# Altium schematic symbol library PCB_Project.SCHLIB: 43 symbols
Pins are listed as number, name and electrical type; pins without a type are passive.

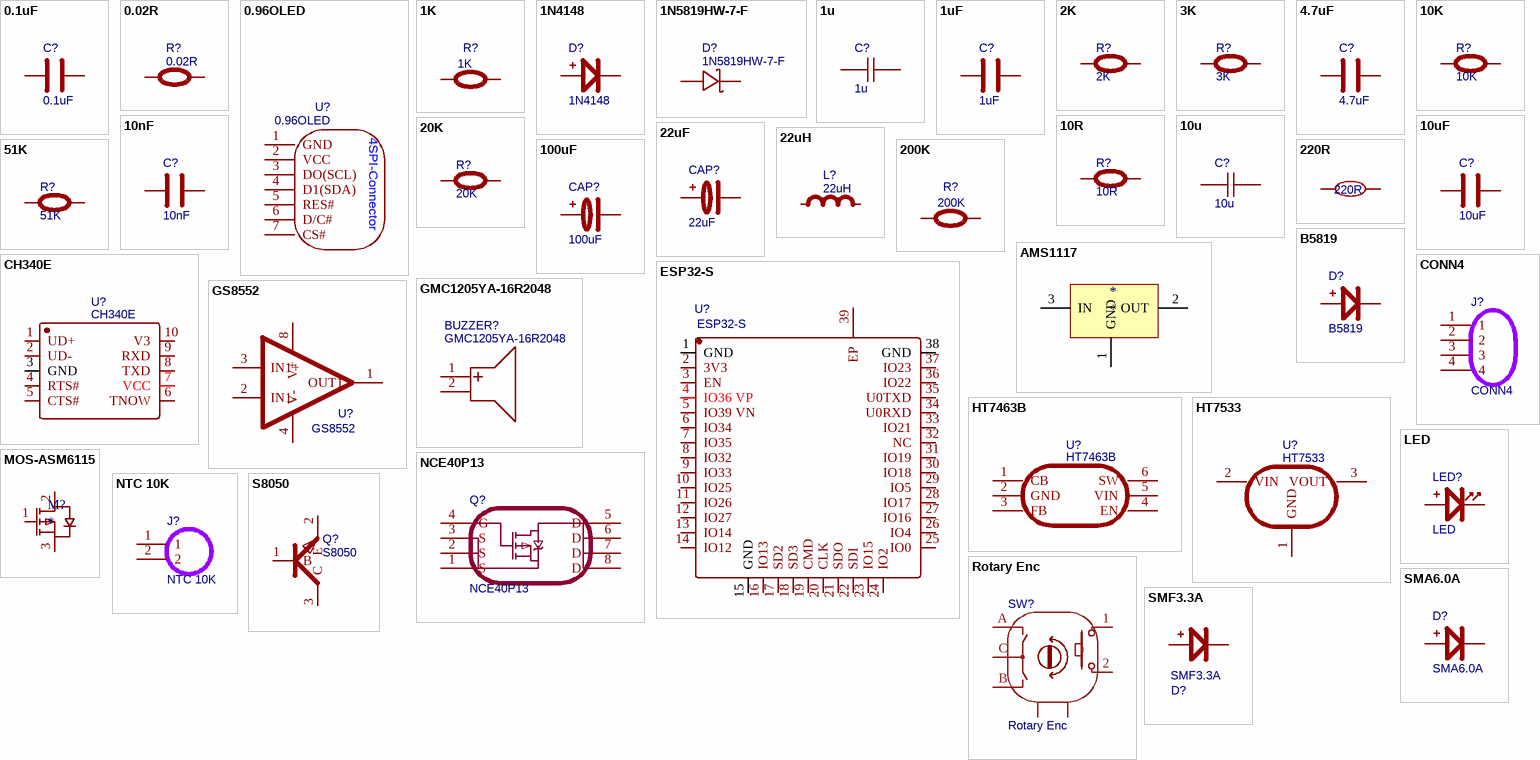
[diagram p0: symbols 0.1uF to SMF3.3A]

## 0.1uF
designator C?
Contributor: 47415Y; spicePre: C; spiceSymbolName: CAP
footprint LC-0603-C
pins: 1, 2

## 0.02R
designator R?
Contributor: 47415Y; spicePre: R; spiceSymbolName: RES
footprint LC-0603-R
pins: 1, 2

## 0.96OLED
designator U?
Contributor: jhsdhdhusdisd; spicePre: U; spiceSymbolName: 0.96OLED
footprint OLED 12864 SPI 7P
pins: 1 GND, 2 VCC, 3 DO(SCL), 4 D1(SDA), 5 RES#, 6 D/C#, 7 CS#
text: 4SPI-Connector

## 1K
designator R?
Contributor: 47415Y; spicePre: R; spiceSymbolName: RES
footprint LC-0603-R
pins: 1, 2

## 1N4148
designator D?
Contributor: 47415Y; spicePre: D; spiceSymbolName: DIO
footprint LC-SOD-123
pins: 1, 2

## 1N5819HW-7-F
designator D?
BOM_Manufacturer: DIODES; BOM_Paste Type: expand; BOM_Assembly Type: smtWeld; BOM_Supplier: LCSC; BOM_Manufacturer Part: 1N5819HW-7-F; image: //image.lceda.cn/szlcsc/C82544.jpg; BOM_Supplier Part: C82544; spicePre: D; spiceSymbolName: 1N5819HW-7-F; BOM_JLCPCB Part Class: Extended Part
footprint SOD-123_L2.8-W1.8-LS3.7-FD
pins: 1 A, 2 K

## 1u
designator C?
nameAlias: Value(F); Contributor: LCEDA_Lib; spicePre: C; spiceSymbolName: C_0603_US
footprint C0603
pins: 1, 2

## 1uF
designator C?
Contributor: 47415Y; spicePre: C; spiceSymbolName: CAP
footprint LC-0603-C
pins: 1, 2

## 2K
designator R?
Contributor: 47415Y; spicePre: R; spiceSymbolName: RES
footprint LC-0603-R
pins: 1, 2

## 3K
designator R?
Contributor: 47415Y; spicePre: R; spiceSymbolName: RES
footprint LC-0603-R
pins: 1, 2

## 4.7uF
designator C?
Contributor: 47415Y; spicePre: C; spiceSymbolName: CAP
footprint LC-0603-C
pins: 1, 2

## 10K
designator R?
Contributor: 47415Y; spicePre: R; spiceSymbolName: RES
footprint LC-0603-R
pins: 1, 2

## 10nF
designator C?
Contributor: 47415Y; spicePre: C; spiceSymbolName: CAP
footprint LC-0603-C
pins: 1, 2

## 10R
designator R?
Contributor: 47415Y; spicePre: R; spiceSymbolName: RES
footprint LC-0603-R
pins: 1, 2

## 10u
designator C?
nameAlias: Value(F); Contributor: LCEDA_Lib; spicePre: C; spiceSymbolName: C_0603_US
footprint C0603
pins: 1, 2

## 10uF
designator C?
Contributor: 47415Y; spicePre: C; spiceSymbolName: CAP
footprint LC-0603-C
pins: 1, 2

## 20K
designator R?
Contributor: 47415Y; spicePre: R; spiceSymbolName: RES
footprint LC-0603-R
pins: 1, 2

## 22uF
designator CAP?
Contributor: 47415Y; spicePre: C; spiceSymbolName: CAPX
footprint CAPX-5.0
pins: 1, 2

## 22uH
designator L?
Contributor: 47415Y; spicePre: L; spiceSymbolName: LIN
footprint LIN0520
pins: 1, 2

## 51K
designator R?
Contributor: 47415Y; spicePre: R; spiceSymbolName: RES
footprint LC-0603-R
pins: 1, 2

## 100uF
designator CAP?
Contributor: 47415Y; spicePre: C; spiceSymbolName: CAPX
footprint CAPX-5.0
pins: 1, 2

## 200K
designator R?
Contributor: 47415Y; spicePre: R; spiceSymbolName: RES
footprint LC-0603-R
pins: 1, 2

## 220R
designator R?
nameAlias: Value(Ω); Contributor: LCEDA_Lib; spicePre: R; spiceSymbolName: R_0603_EU
footprint R0603
pins: 1, 2

## AMS1117
designator *
pins: 1 GND, 2 OUT, 3 IN

## B5819
designator D?
Contributor: 47415Y; spicePre: D; spiceSymbolName: DIO
footprint LC-SOD-123
pins: 1, 2

## CH340E
designator U?
BOM_Manufacturer: WCH; BOM_Paste Type: recommend; BOM_Supplier: LCSC; BOM_Manufacturer Part: CH340E; BOM_Supplier Part: C99652; spicePre: U; spiceSymbolName: CH340E; BOM_JLCPCB Part Class: Extended Part
footprint MSOP-10_L3.0-W3.0-P0.50-LS5.0-BL
pins: 1 UD+, 2 UD-, 3 GND, 4 RTS#, 5 CTS#, 6 TNOW, 7 VCC, 8 TXD, 9 RXD, 10 V3

## CONN4
designator J?
Contributor: 47415Y; spicePre: J; spiceSymbolName: CONN4
footprint SIP-4
pins: 1, 2, 3, 4

## ESP32-S
designator U?
BOM_Manufacturer: Ai-Thinker; Contributor: LCSC; Package Display: No; BOM_Supplier: LCSC; BOM_Supplier Part: C277944; BOM_Manufacturer Part: ESP32-S; BOM_JLCPCB Part Class: Extended Part; spicePre: U; spiceSymbolName: ESP32-S
footprint WIRELM-SMD_ESP32-S
pins: 1 GND, 2 3V3, 3 EN, 4 IO36 VP, 5 IO39 VN, 6 IO34, 7 IO35, 8 IO32, 9 IO33, 10 IO25, 11 IO26, 12 IO27, 13 IO14, 14 IO12, 15 GND, 16 IO13, 17 SD2, 18 SD3, 19 CMD, 20 CLK, 21 SDO, 22 SDI, 23 IO15, 24 IO2, 25 IO0, 26 IO4, 27 IO16, 28 IO17, 29 IO5, 30 IO18, 31 IO19, 32 NC, 33 IO21, 34 U0RXD, 35 U0TXD, 36 IO22, 37 IO23, 38 GND, 39 EP

## GMC1205YA-16R2048
designator BUZZER?
BOM_Manufacturer: INGHAi; Contributor: LCSC; BOM_Supplier: LCSC; BOM_Supplier Part: C252915; BOM_Manufacturer Part: GMC1205YA-16R2048; BOM_JLCPCB Part Class: Extended Part; spicePre: B; spiceSymbolName: GMC1205YA-16R2048
footprint BUZ-TH_BD12.0-P6.50-D0.6-FD
pins: 1 +, 2 -

## GS8552
designator U?
subpart_no: 1; Contributor: 47415Y; spicePre: U; spiceSymbolName: LM358
footprint LC-SOP-8-150MIL
pins: 1 OUT1, 2 IN1-, 3 IN1+, 4 V-, 8 V+

## HT7463B
designator U?
Contributor: 47415Y; spicePre: U; spiceSymbolName: HT7463B
footprint LC-SOT-23-6
pins: 1 CB, 2 GND, 3 FB, 4 EN, 5 VIN, 6 SW

## HT7533
designator U?
Contributor: 47415Y; spicePre: U; spiceSymbolName: HT7533
footprint LC-SOT-89
pins: 1 GND, 2 VIN, 3 VOUT

## LED
designator LED?
Contributor: 47415Y; spicePre: L; spiceSymbolName: LED
footprint LC-0603-LED
pins: A, K

## MOS-ASM6115
designator M?
pins: 1 G, 2 D, 3 S

## NCE40P13
designator Q?
Contributor: 47415Y; spicePre: Q; spiceSymbolName: MOS-P-DFN
footprint DFN8-5*6
pins: 1 S, 2 S, 3 S, 4 G, 5 D, 6 D, 7 D, 8 D

## NTC 10K
designator J?
Contributor: 47415Y; spicePre: J; spiceSymbolName: CONN2
footprint SIP-2
pins: 1, 2

## Rotary Enc
designator SW?
BOM_Manufacturer: BOURNS; BOM_Manufacturer Part: PEC11R-4015F-S0024; Contributor: LCSC; BOM_Supplier: LCSC; BOM_Supplier Part: C143789; spicePre: S; BOM_JLCPCB Part Class: Extended Part; spiceSymbolName: PEC11R-4015F-S0024
footprint SW-TH_PEC11R-4XXXF-SXXXX
pins: 1, 2, A, B, C, MT1, MT2

## S8050
designator Q?
Contributor: 47415Y; spicePre: Q; spiceSymbolName: NPN
footprint LC-SOT-23(SOT-23-3)
pins: 1 B, 2 E, 3 C

## SMA6.0A
designator D?
Contributor: 47415Y; spicePre: D; spiceSymbolName: DIO
footprint LC-SOD-123
pins: 1, 2

## SMF3.3A
designator D?
Contributor: 47415Y; spicePre: D; spiceSymbolName: DIO
footprint LC-SOD-123
pins: 1, 2

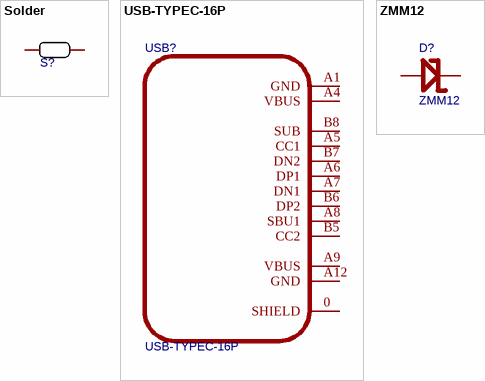
[diagram p1: symbols Solder to ZMM12]

## Solder
designator S?  (value not drawn)
BOM_Mounted: No; spicePre: S
footprint SW_HAND_WELD_JX
pins: 1, 2

## USB-TYPEC-16P
designator USB?
Contributor: 47415Y; spicePre: U; spiceSymbolName: USB-TYPEC-16P
footprint USB-TYPE-C-16P
pins: 0 SHIELD, A1 GND, A4 VBUS, A5 CC1, A6 DP1, A7 DN1, A8 SBU1, A9 VBUS, A12 GND, B5 CC2, B6 DP2, B7 DN2, B8 SUB

## ZMM12
designator D?
Contributor: 47415Y; spicePre: D; spiceSymbolName: ZER
footprint LC-SOD-123
pins: 1, 2